# EAGLE library part SN754410NE (library SN754410NE)
Quad 1/2-H Driver/Linear, I/F SN754410NE, PDIP(16) Source: Datasheet <https://datasheet.datasheetarchive.com/originals/distributors/SFDatasheet-6/sf-000129671.pdf>
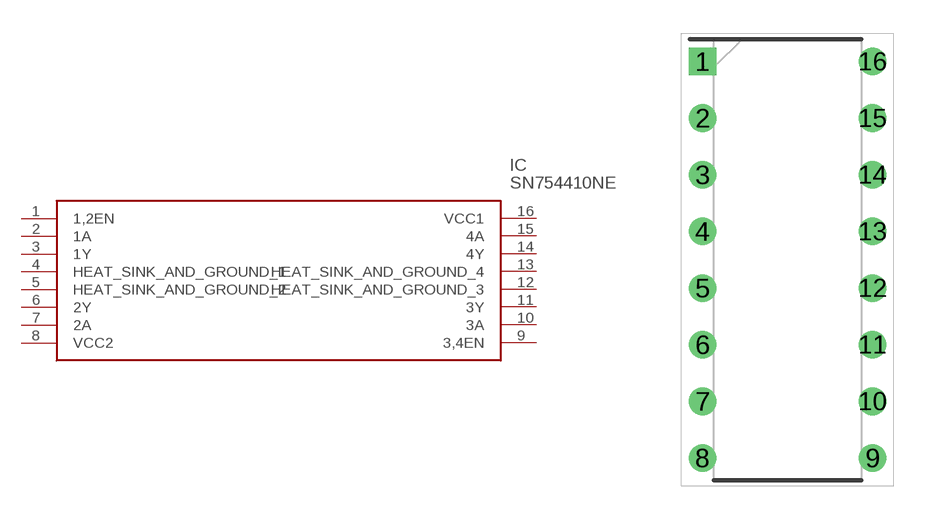
[diagram p0: symbol with the pads of DIP762W53P254L1980H508Q16N; footprint DIP762W53P254L1980H508Q16N]

Designator prefix IC

## SN754410NE (Arrow_Part_Number: SN754410NE; Arrow_Price-Stock: https://www.arrow.com/en/products/sn754410ne/texas-instruments?region=nac; Description: Quad 1/2-H Driver/Linear, I/F SN754410NE, PDIP(16); Height: 5.08mm; Manufacturer_Name: Texas Instruments; Manufacturer_Part_Number: SN754410NE; Mouser_Part_Number: 595-SN754410NE; Mouser_Price-Stock: https://www.mouser.co.uk/ProductDetail/Texas-Instruments/SN754410NE?qs=AMJt07B76uuZ4Fb3eRjJ6A%3D%3D)  [DIP762W53P254L1980H508Q16N]
1  1,2EN
2  1A
3  1Y
4  HEAT_SINK_AND_GROUND_1
5  HEAT_SINK_AND_GROUND_2
6  2Y
7  2A
8  VCC2
9  3,4EN
10  3A
11  3Y
12  HEAT_SINK_AND_GROUND_3
13  HEAT_SINK_AND_GROUND_4
14  4Y
15  4A
16  VCC1

## Footprint DIP762W53P254L1980H508Q16N (pad centres in mm)
NE Package (R-PDIP-T16)
drill 0.73 pad 1.13 square: 1 -3.81,8.89
drill 0.73 pad 1.13: 2 -3.81,6.35; 3 -3.81,3.81; 4 -3.81,1.27; 5 -3.81,-1.27; 6 -3.81,-3.81; 7 -3.81,-6.35; 8 -3.81,-8.89; 9 3.81,-8.89; 10 3.81,-6.35; 11 3.81,-3.81; 12 3.81,-1.27; 13 3.81,1.27; 14 3.81,3.81; 15 3.81,6.35; 16 3.81,8.89